# Altium footprint library CAPC6153X300N.PcbLib: 1 footprints
Each footprint in its own frame and in the unit in brackets; x right, y up, seen from the top. Pads: shape width x height; smd on the part's side, far side on the other; paste and mask are expansions set on the pad; w line width, h text height; cw(c..) or ccw(c..) is an arc to the next point about the centre after c.
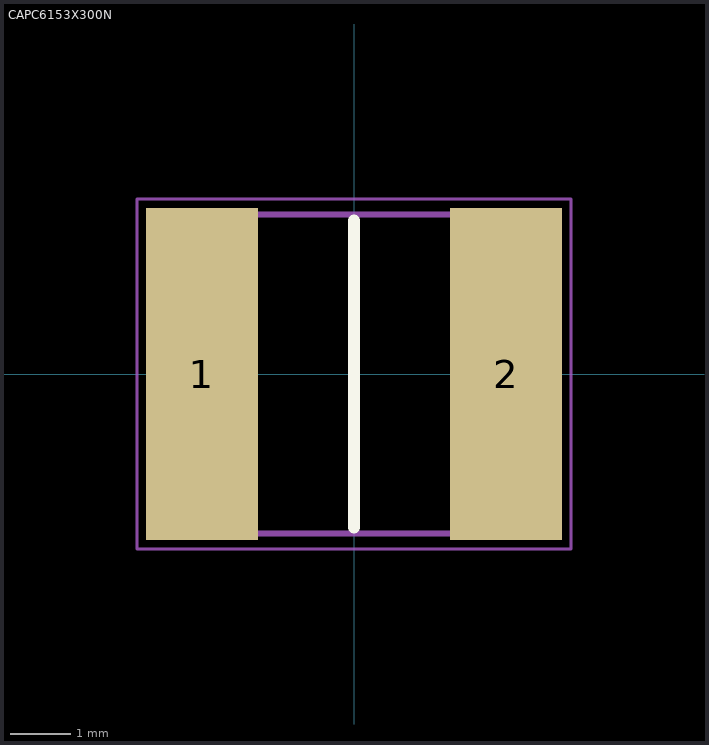
[diagram p0: the footprint, top view; thin cyan lines are the x and y axes]

## CAPC6153X300N [mm]
pads (2):
  rect 1.86x5.52 smd: 1(-2.53,0) 2(2.53,0)
Top Overlay:
  lines w0.2: 0,-2.55 0,2.55
Mechanical 15:
  lines w0.1: -3.05,-2.65 -3.05,2.65 3.05,2.65 3.05,-2.65 -3.05,-2.65
Mechanical 20:
  lines w0.05: -3.61,-2.91 -3.61,2.91 3.61,2.91 3.61,-2.91 -3.61,-2.91
3D body "KRM55LR72A475KH01K.stp": height 3, standoff 0, extent -3.05,-2.65 3.05,2.65